# Altium integrated library EGS002.IntLib: 1 symbol
Pins are listed as number, name and electrical type; pins without a type are passive.

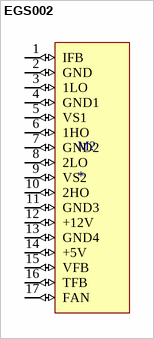
[diagram p0: symbol EGS002]

## EGS002
designator M?
EGS002 is a driver board specific for single phase sinusoid inverter. It uses ASIC EG8010 as control chip and IR2110S as driver chip.; MF: EGmicro; Package: Package; Price: None; Value: *; SnapEDA_Link: https://www.snapeda.com/parts/EGS002/EGmicro/view-part/?ref=snap; MP: EGS002; Availability: Not in stock; Check_prices: https://www.snapeda.com/parts/EGS002/EGmicro/view-part/?ref=eda
footprint EGS002
pins: 1 IFB (io), 2 GND (io), 3 1LO (io), 4 GND1 (io), 5 VS1 (io), 6 1HO (io), 7 GND2 (io), 8 2LO (io), 9 VS2 (io), 10 2HO (io), 11 GND3 (io), 12 +12V (io), 13 GND4 (io), 14 +5V (io), 15 VFB (io), 16 TFB (io), 17 FAN (io)